# EAGLE library part ALPHA-9MM-DUALPOT (library dpx-modular_synth)
9mm vertical snap-in pot, Alpha / Panasonic style, with a connection to the metal chassis for grounding
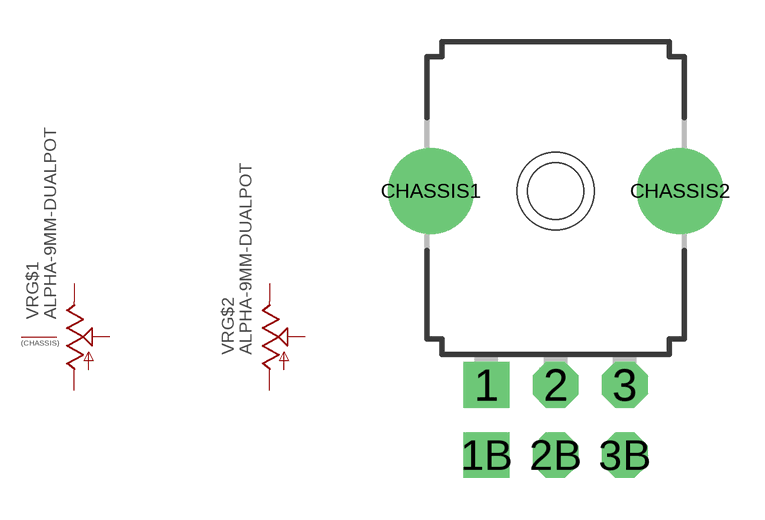
[diagram p1: symbol with the pads of DUAL_9MM_SNAP-IN_POT; footprint DUAL_9MM_SNAP-IN_POT]

Designator prefix VR; gates G$1=POTENTIOMETER_CHASSIS G$2=POTENTIOMETER

## ALPHA-9MM-DUALPOT  [DUAL_9MM_SNAP-IN_POT]
1  G$1:A  pas
1B  G$2:A  pas
2  G$1:S  pas
2B  G$2:S  pas
3  G$1:E  pas
3B  G$2:E  pas
CHASSIS1  G$1:P$1  pas
CHASSIS2  G$1:P$1  pas

## Footprint DUAL_9MM_SNAP-IN_POT (pad centres in mm)
9mm vertical snap-in pot, Alpha / Panasonic style
drill 1.1 square: 1 -2.5,-7; 1B -2.5,-9.54
drill 1.1 octagon: 2 0,-7; 2B 0,-9.54; 3 2.5,-7; 3B 2.5,-9.54
drill 2.1 pad 2.54: CHASSIS1 -4.5,0; CHASSIS2 4.5,0